# Altium footprint library QUAN-AD-Library.PcbLib: 213 footprints (part 6 of 14)
Each footprint in its own frame and in the unit in brackets; x right, y up, seen from the top. Pads: shape width x height; smd on the part's side, far side on the other; paste and mask are expansions set on the pad; w line width, h text height; cw(c..) or ccw(c..) is an arc to the next point about the centre after c.
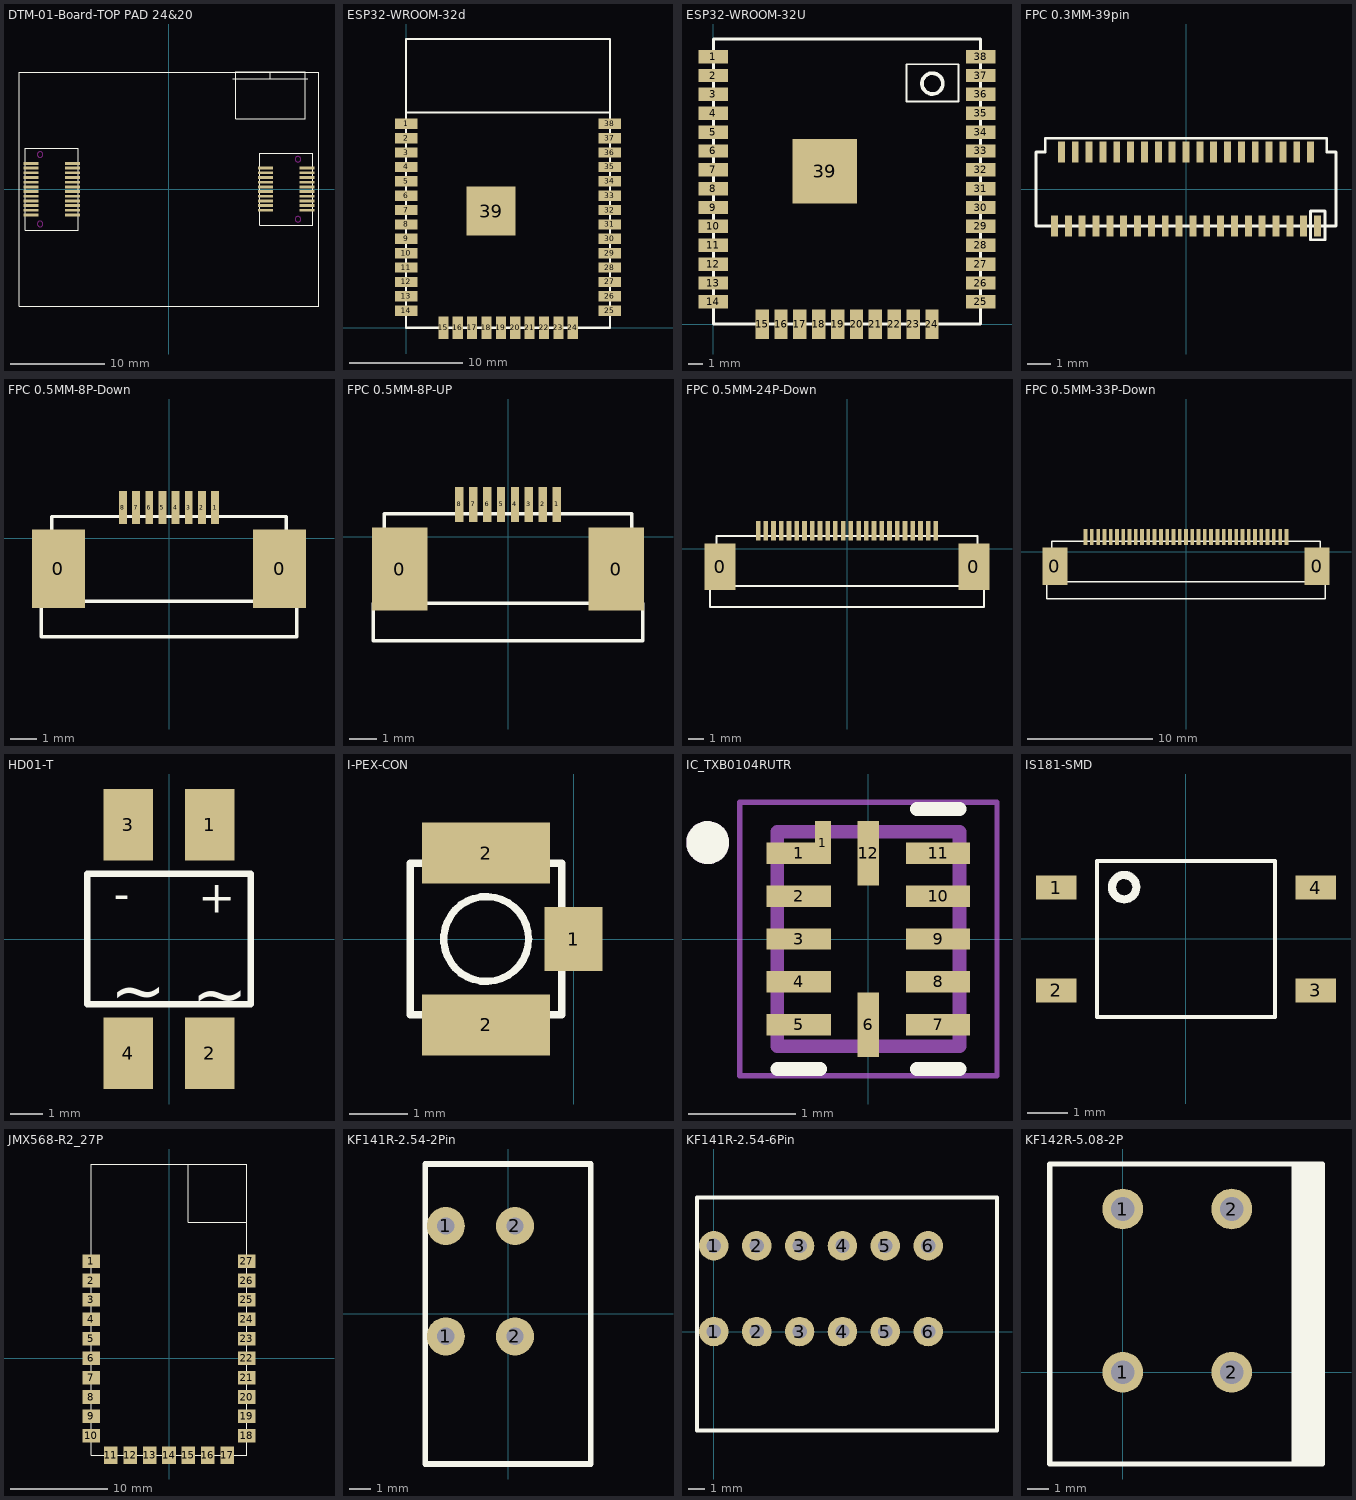
[diagram p5: the footprints below, top view; thin cyan lines are the x and y axes]

## DTM-01-Board-TOP PAD 24&20 [mm] "DTM-01-Board-TOP PAD 24&20"
pads (44):
  rect 1.6x0.3 smd: 1A(-10.3,2.75) 1B(14.7,2.25) 2A(-14.7,2.75) 2B(10.3,2.25) 3A(-10.3,2.25) 3B(14.7,1.75) 4A(-14.7,2.25) 4B(10.3,1.75) 5A(-10.3,1.75) 5B(14.7,1.25) 6A(-14.7,1.75) 6B(10.3,1.25) 7A(-10.3,1.25) 7B(14.7,0.75) 8A(-14.7,1.25) 8B(10.3,0.75) 9A(-10.3,0.75) 9B(14.7,0.25) 10A(-14.7,0.75) 10B(10.3,0.25) 11A(-10.3,0.25) 11B(14.7,-0.25) 12A(-14.7,0.25) 12B(10.3,-0.25) 13A(-10.3,-0.25) 13B(14.7,-0.75) 14A(-14.7,-0.25) 14B(10.3,-0.75) 15A(-10.3,-0.75) 15B(14.7,-1.25) 16A(-14.7,-0.75) 16B(10.3,-1.25) 17A(-10.3,-1.25) 17B(14.7,-1.75) 18A(-14.7,-1.25) 18B(10.3,-1.75) 19A(-10.3,-1.75) 19B(14.7,-2.25) 20A(-14.7,-1.75) 20B(10.3,-2.25) 21A(-10.3,-2.25) 22A(-14.7,-2.25) 23A(-10.3,-2.75) 24A(-14.7,-2.75)
Top Overlay:
  lines w0.127: 6.825,11.8 14.825,11.8 ; 10.825,11.8 10.825,12.55 ; -16,-12.5 -16,12.5 16,12.5 16,-12.5 -16,-12.5 ; -15.325,-4.35 -9.675,-4.35 -9.675,4.35 -15.325,4.35 -15.325,-4.35 ; 7.125,7.5 14.525,7.5 14.525,12.55 7.125,12.55 7.125,7.5 ; 9.675,-3.85 15.325,-3.85 15.325,3.85 9.675,3.85 9.675,-3.85
Keep-Out Layer:
  circle w0.1: c-13.75,-3.7 r0.3
  circle w0.1: c-13.75,3.7 r0.3
  circle w0.1: c13.75,-3.2 r0.3
  circle w0.1: c13.75,3.2 r0.3

## ESP32-WROOM-32d [mm] "ESP32-WROOM-32D"
pads (39):
  rect 2x0.9 smd mask+0.102: 1(0,18.01) 2(0,16.74) 3(0,15.47) 4(0,14.2) 5(0,12.93) 6(0,11.66) 7(0,10.39) 8(0,9.12) 9(0,7.85) 10(0,6.58) 11(0,5.31) 12(0,4.04) 13(0,2.77) 14(0,1.5) 25(18,1.5) 26(18,2.77) 27(18,4.04) 28(18,5.31) 29(18,6.58) 30(18,7.85) 31(18,9.12) 32(18,10.39) 33(18,11.66) 34(18,12.93) 35(18,14.2) 36(18,15.47) 37(18,16.74) 38(18,18.01)
  rect 0.9x2 smd mask+0.102: 15(3.29,0) 16(4.56,0) 17(5.83,0) 18(7.1,0) 19(8.37,0) 20(9.64,0) 21(10.91,0) 22(12.18,0) 23(13.45,0) 24(14.72,0)
  rect 4.32x4.32 smd mask+0.102: 39(7.5,10.3)
Top Overlay:
  lines w0.2: 0,19 18,19 ; 0,0 0,25.5 18,25.5 18,0 0,0

## ESP32-WROOM-32U [mm] "ESP32-WROOM-32U"
pads (39):
  rect 2x0.9 smd mask+0.102: 1(0,18.01) 2(0,16.74) 3(0,15.47) 4(0,14.2) 5(0,12.93) 6(0,11.66) 7(0,10.39) 8(0,9.12) 9(0,7.85) 10(0,6.58) 11(0,5.31) 12(0,4.04) 13(0,2.77) 14(0,1.5) 25(18,1.5) 26(18,2.77) 27(18,4.04) 28(18,5.31) 29(18,6.58) 30(18,7.85) 31(18,9.12) 32(18,10.39) 33(18,11.66) 34(18,12.93) 35(18,14.2) 36(18,15.47) 37(18,16.74) 38(18,18.01)
  rect 0.9x2 smd mask+0.102: 15(3.29,0) 16(4.56,0) 17(5.83,0) 18(7.1,0) 19(8.37,0) 20(9.64,0) 21(10.91,0) 22(12.18,0) 23(13.45,0) 24(14.72,0)
  rect 4.32x4.32 smd mask+0.102: 39(7.5,10.3)
Top Overlay:
  circle w0.254: c14.75,16.2 r0.7
  lines w0.127: 13,15 13,17.5 16.5,17.5 16.5,15 13,15
  lines w0.2: 0,0 18,0 18,19.2 0,19.2 0,0

## FPC 0.3MM-39pin [mm] "FPC 0.3MM-39pin"
pads (39):
  rect 0.3x0.9 smd: 1(5.7,-1.6) 2(5.4,1.6) 3(5.1,-1.6) 4(4.8,1.6) 5(4.5,-1.6) 6(4.2,1.6) 7(3.9,-1.6) 8(3.6,1.6) 9(3.3,-1.6) 10(3,1.6) 11(2.7,-1.6) 12(2.4,1.6) 13(2.1,-1.6) 14(1.8,1.6) 15(1.5,-1.6) 16(1.2,1.6) 17(0.9,-1.6) 18(0.6,1.6) 19(0.3,-1.6) 20(0,1.6) 21(-0.3,-1.6) 22(-0.6,1.6) 23(-0.9,-1.6) 24(-1.2,1.6) 25(-1.5,-1.6) 26(-1.8,1.6) 27(-2.1,-1.6) 28(-2.4,1.6) 29(-2.7,-1.6) 30(-3,1.6) 31(-3.3,-1.6) 32(-3.6,1.6) 33(-3.9,-1.6) 34(-4.2,1.6) 35(-4.5,-1.6) 36(-4.8,1.6) 37(-5.1,-1.6) 38(-5.4,1.6) 39(-5.7,-1.6)
Top Overlay:
  lines w0.127: 5.4,-1.6 5.4,-2.2 6.025,-2.2 6.025,-0.95 5.4,-0.95 5.4,-1.55 ; -6.5,-1.6 6.5,-1.6 6.5,1.6 6.1,1.6 6.1,2.2 -6.1,2.2 -6.1,1.6 -6.5,1.6 -6.5,-1.6

## FPC 0.5MM-8P-Down [mm] "FPC 0.5MM-8P-Down"
pads (10):
  rect 2x3 smd mask+0.05: 0(-4.2,-1.162) 0(4.2,-1.162)
  rect 0.3x1.25 smd mask+0.05: 1(1.75,1.162) 2(1.25,1.162) 3(0.75,1.162) 4(0.25,1.162) 5(-0.25,1.162) 6(-0.75,1.162) 7(-1.25,1.162) 8(-1.75,1.162)
Top Overlay:
  lines w0.127: -4.45,-2.4 -4.45,0.825 4.45,0.825 4.45,-2.4 ; -4.85,-3.75 -4.85,-2.4 4.85,-2.4 4.85,-3.75 -4.85,-3.75

## FPC 0.5MM-8P-UP [mm] "FPC 0.5MM-8P-UP"
pads (10):
  rect 2x3 smd mask+0.05: 0(-3.9,-1.162) 0(3.9,-1.162)
  rect 0.3x1.25 smd mask+0.05: 1(1.75,1.162) 2(1.25,1.162) 3(0.75,1.162) 4(0.25,1.162) 5(-0.25,1.162) 6(-0.75,1.162) 7(-1.25,1.162) 8(-1.75,1.162)
Top Overlay:
  lines w0.127: -4.45,-2.4 -4.45,0.825 4.45,0.825 4.45,-2.4 ; -4.85,-3.75 -4.85,-2.4 4.85,-2.4 4.85,-3.75 -4.85,-3.75

## FPC 0.5MM-24P-Down [mm] "FPC 0.5MM-24P-Down"
pads (26):
  rect 2x3 smd mask+0.05: 0(-8.2,-1.162) 0(8.2,-1.162)
  rect 0.3x1.25 smd mask+0.05: 1(5.75,1.162) 2(5.25,1.162) 3(4.75,1.162) 4(4.25,1.162) 5(3.75,1.162) 6(3.25,1.162) 7(2.75,1.162) 8(2.25,1.162) 9(1.75,1.162) 10(1.25,1.162) 11(0.75,1.162) 12(0.25,1.162) 13(-0.25,1.162) 14(-0.75,1.162) 15(-1.25,1.162) 16(-1.75,1.162) 17(-2.25,1.162) 18(-2.75,1.162) 19(-3.25,1.162) 20(-3.75,1.162) 21(-4.25,1.162) 22(-4.75,1.162) 23(-5.25,1.162) 24(-5.75,1.162)
Top Overlay:
  lines w0.127: -8.45,-2.4 -8.45,0.825 8.45,0.825 8.45,-2.4 ; -8.85,-3.75 -8.85,-2.4 8.85,-2.4 8.85,-3.75 -8.85,-3.75

## FPC 0.5MM-33P-Down [mm] "FPC 0.5MM-33P-Down"
pads (35):
  rect 2x3 smd mask+0.05: 0(-10.45,-1.162) 0(10.45,-1.162)
  rect 0.3x1.25 smd mask+0.05: 1(-8,1.162) 2(-7.5,1.162) 3(-7,1.162) 4(-6.5,1.162) 5(-6,1.162) 6(-5.5,1.162) 7(-5,1.162) 8(-4.5,1.162) 9(-4,1.162) 10(-3.5,1.162) 11(-3,1.162) 12(-2.5,1.162) 13(-2,1.162) 14(-1.5,1.162) 15(-1,1.162) 16(-0.5,1.162) 17(0,1.162) 18(0.5,1.162) 19(1,1.162) 20(1.5,1.162) 21(2,1.162) 22(2.5,1.162) 23(3,1.162) 24(3.5,1.162) 25(4,1.162) 26(4.5,1.162) 27(5,1.162) 28(5.5,1.162) 29(6,1.162) 30(6.5,1.162) 31(7,1.162) 32(7.5,1.162) 33(8,1.162)
Top Overlay:
  lines w0.127: -10.7,-2.4 -10.7,0.825 10.7,0.825 10.7,-2.4 ; -11.1,-3.75 11.1,-3.75 11.1,-2.4 -11.1,-2.4 -11.1,-3.75

## HD01-T [mm]
pads (4):
  rect 1.524x2.2 smd: 1(1.25,3.5) 2(1.25,-3.5) 3(-1.25,3.5) 4(-1.25,-3.5)
Top Overlay:
  lines w0.2: -2.5,-2 2.5,-2 2.5,2 -2.5,2 -2.5,-2
  text "+" at 0.9,0.8 h1
  text "-" at -1.7,0.9 h1
  text "~" at -1.8,-2.3 h1.5
  text "~" at 0.7,-2.4 h1.5

## I-PEX-CON [mm]
pads (3):
  rect 1x1.1 smd: 1(0,0)
  rect 2.2x1.05 smd: 2(-1.5,-1.475) 2(-1.5,1.475)
Top Overlay:
  circle w0.127: c-1.5,0 r0.728
  lines w0.127: -2.8,-1.3 -2.8,1.3 -0.2,1.3 -0.2,-1.3 -2.8,-1.3

## IC_TXB0104RUTR [mm]
pads (13):
  rect 0.6x0.2 smd paste-1 mask+0: 1(-0.65,0.8) 2(-0.65,0.4) 3(-0.65,0) 4(-0.65,-0.4) 5(-0.65,-0.8) 7(0.65,-0.8) 8(0.65,-0.4) 9(0.65,0) 10(0.65,0.4) 11(0.65,0.8)
  rect 0.15x0.4 smd paste-1 mask+0: 1(-0.425,0.9)
  rect 0.2x0.6 smd paste-1 mask+0: 6(0,-0.8) 12(0,0.8)
Top Overlay:
  circle w0.2: c-1.5,0.9 r0.1
  lines w0.127: -0.85,-1.214 -0.45,-1.214 ; 0.45,-1.214 0.85,-1.214 ; 0.45,1.214 0.85,1.214
Top Paste:
  region: -0.35,-0.1 -0.85,-0.1 -0.85,0.1 -0.35,0.1
  region: 0.85,-0.1 0.35,-0.1 0.35,0.1 0.85,0.1
  region: -0.35,0.3 -0.85,0.3 -0.85,0.5 -0.35,0.5
  region: -0.35,-0.5 -0.85,-0.5 -0.85,-0.3 -0.35,-0.3
  region: -0.35,-0.9 -0.85,-0.9 -0.85,-0.7 -0.35,-0.7
  region: 0.85,-0.5 0.35,-0.5 0.35,-0.3 0.85,-0.3
  region: 0.85,-0.9 0.35,-0.9 0.35,-0.7 0.85,-0.7
  region: 0.85,0.3 0.35,0.3 0.35,0.5 0.85,0.5
  region: 0.85,0.7 0.35,0.7 0.35,0.9 0.85,0.9
  region: 0.1,0.5 -0.1,0.5 -0.1,1 0.1,1
  region: 0.1,-1 -0.1,-1 -0.1,-0.5 0.1,-0.5
  region: -0.35,0.7 -0.85,0.7 -0.85,0.9 -0.5,0.9 -0.5,1 -0.35,1
Top Solder:
  region: -0.3,-0.15 -1,-0.15 -1,0.15 -0.3,0.15
  region: 1,-0.15 0.3,-0.15 0.3,0.15 1,0.15
  region: -0.3,0.25 -1,0.25 -1,0.55 -0.3,0.55
  region: -0.3,-0.55 -1,-0.55 -1,-0.25 -0.3,-0.25
  region: -0.3,-0.95 -1,-0.95 -1,-0.65 -0.3,-0.65
  region: 1,-0.55 0.3,-0.55 0.3,-0.25 1,-0.25
  region: 1,-0.95 0.3,-0.95 0.3,-0.65 1,-0.65
  region: 1,0.25 0.3,0.25 0.3,0.55 1,0.55
  region: 1,0.65 0.3,0.65 0.3,0.95 1,0.95
  region: 0.15,0.45 -0.15,0.45 -0.15,1.15 0.15,1.15
  region: 0.15,-1.15 -0.15,-1.15 -0.15,-0.45 0.15,-0.45
  region: -0.3,0.65 -1,0.65 -1,0.95 -0.55,0.95 -0.55,1.15 -0.3,1.15
Mechanical 13:
  circle w0.2: c-1.5,0.9 r0.1
  lines w0.127: -0.85,-1 0.85,-1 0.85,1 -0.85,1 -0.85,-1
Mechanical 15:
  lines w0.05: -1.2,-1.277 1.2,-1.277 1.2,1.277 -1.2,1.277 -1.2,-1.277

## IS181-SMD [mm] "IS181-SMD"
pads (4):
  rect 1x0.6 smd: 1(-3.2,1.27) 2(-3.2,-1.27) 3(3.2,-1.27) 4(3.2,1.27)
Top Overlay:
  lines w0.1: -2.2,-1.925 2.2,-1.925 2.2,1.925 -2.2,1.925 -2.2,-1.925
  lines w0.2: -1.825,1.275 ccw(c-1.525,1.279) -1.825,1.283

## JMX568-R2_27P [mm] "JMX568-R2_27P"
pads (27):
  rect 1.8x1.4 smd mask+0.102: 1(-8,10) 2(-8,8) 3(-8,6) 4(-8,4) 5(-8,2) 6(-8,0) 7(-8,-2) 8(-8,-4) 9(-8,-6) 10(-8,-8) 18(8,-8) 19(8,-6) 20(8,-4) 21(8,-2) 22(8,0) 23(8,2) 24(8,4) 25(8,6) 26(8,8) 27(8,10)
  rect 1.4x1.8 smd mask+0.102: 11(-6,-10) 12(-4,-10) 13(-2,-10) 14(0,-10) 15(2,-10) 16(4,-10) 17(6,-10)
Top Overlay:
  lines w0.127: 2,20 2,14 8,14 ; -8,-10 -8,20 8,20 8,-10 -8,-10

## KF141R-2.54-2Pin [mm] "KF141R-2.54-2Pin"
pads (4):
  round 1.75 hole 0.8: 1(-2.86,-1.03) 1(-2.86,4.05) 2(0.32,-1.03) 2(0.32,4.05)
Top Overlay:
  lines w0.254: -3.81,-6.9 3.81,-6.9 3.81,6.9 -3.81,6.9 -3.81,-6.9

## KF141R-2.54-6Pin [mm] "KF141R-2.54-6Pin"
pads (12):
  round 1.75 hole 0.85: 1(0,0) 1(0,5.08) 2(2.54,0) 2(2.54,5.08) 3(5.08,0) 3(5.08,5.08) 4(7.62,0) 4(7.62,5.08) 5(10.16,0) 5(10.16,5.08) 6(12.7,0) 6(12.7,5.08)
Top Overlay:
  lines w0.254: -1,7.93 -1,-5.87 6.62,-5.87 ; -1,7.95 6.62,7.95 ; 1.53,7.95 16.78,7.95 16.78,-5.85 ; 1.54,-5.87 16.78,-5.87

## KF142R-5.08-2P [mm] "KF142R-5.08-2P"
pads (4):
  round 1.9 hole 1.1: 1(0,0) 1(0,7.62) 2(5.08,0) 2(5.08,7.62)
Top Overlay:
  rectangle: 8.025,-4.28 9.3,9.72
  lines w0.254: 8,-4.28 8,9.72 ; -3.4,-4.28 9.3,-4.28 9.3,9.72 -3.4,9.72 -3.4,-4.28